# Altium footprint library lib-transistors_pcb.PcbLib: 1 footprints
Each footprint in its own frame and in the unit in brackets; x right, y up, seen from the top. Pads: shape width x height; smd on the part's side, far side on the other; paste and mask are expansions set on the pad; w line width, h text height; cw(c..) or ccw(c..) is an arc to the next point about the centre after c.
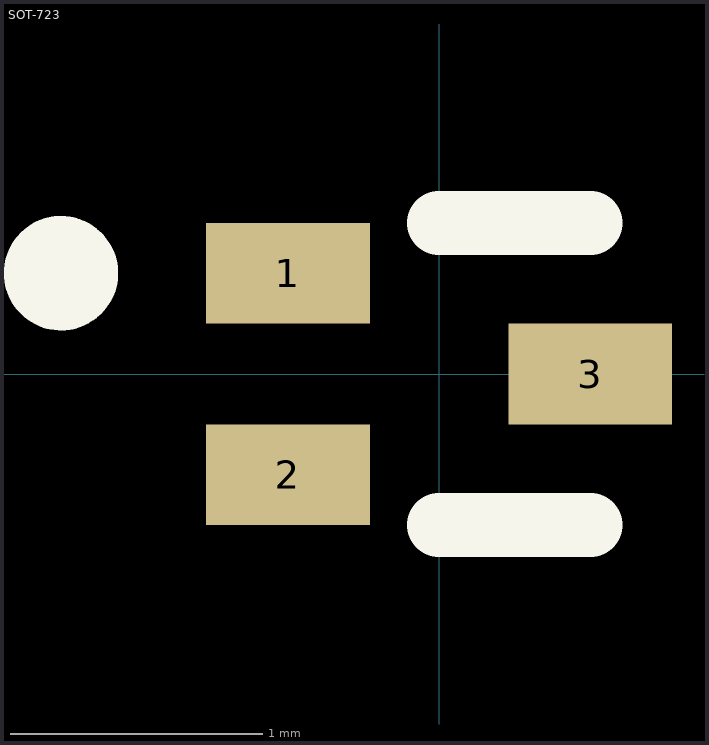
[diagram p0: the footprint, top view; thin cyan lines are the x and y axes]

## SOT-723 [mm] "TOSHIBA SOT-723"
height 0.508
pads (3):
  rect 0.65x0.4 smd: 1(-0.6,0.4) 2(-0.6,-0.4) 3(0.6,0)
Top Overlay:
  circle w0.254: c-1.5,0.4 r0.1
  lines w0.254: 0,-0.6 0.6,-0.6 ; 0,0.6 0.6,0.6
3D body: height 0.25, standoff 0, extent -0.4,-0.6 0.4,0.6